# Altium schematic symbol library XSUB_COMP.SchLib: 5 symbols
Pins are listed as number, name and electrical type; pins without a type are passive.

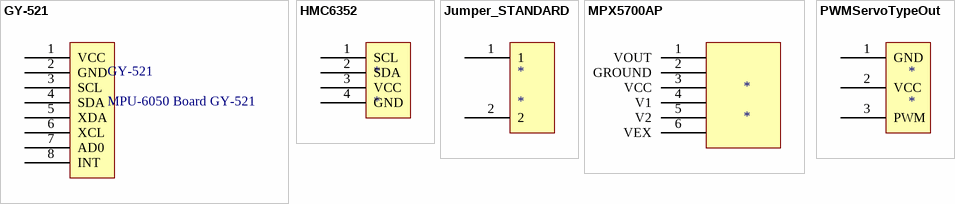
[diagram p0: symbols GY-521 to PWMServoTypeOut]

## GY-521
designator GY-521, comment MPU-6050 Board GY-521
footprint GY-521
pins: 1 VCC (power), 2 GND (power), 3 SCL, 4 SDA, 5 XDA, 6 XCL, 7 AD0, 8 INT

## HMC6352
designator *
footprint HMC6352_SF
pins: 1 SCL, 2 SDA, 3 VCC, 4 GND

## Jumper_STANDARD
designator *
pins: 1, 2

## MPX5700AP
designator *
pins: 1 VOUT, 2 GROUND, 3 VCC, 4 V1, 5 V2, 6 VEX

## PWMServoTypeOut
designator *
pins: 1 GND (power), 2 VCC (power), 3 PWM